# Altium schematic symbol library Sheet_1_2021-12-20.SCHLIB: 1 symbol
Pins are listed as number, name and electrical type; pins without a type are passive.

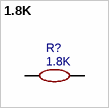
[diagram p0: symbol 1.8K]

## 1.8K
designator R?
BOM_Manufacturer: UniOhm; BOM_Manufacturer Part: 0603WAF1801T5E; nameAlias: Resistance (Ohms); BOM_Supplier: LCSC; BOM_Supplier Part: C4177; BOM_JLCPCB Part Class: Basic Part; spicePre: R; spiceSymbolName: 0603WAF1801T5E
footprint R0603
pins: 1, 2